# Altium footprint library MergenElektronik_Oscillators_Crystals.PcbLib: 3 footprints
Each footprint in its own frame and in the unit in brackets; x right, y up, seen from the top. Pads: shape width x height; smd on the part's side, far side on the other; paste and mask are expansions set on the pad; w line width, h text height; cw(c..) or ccw(c..) is an arc to the next point about the centre after c.
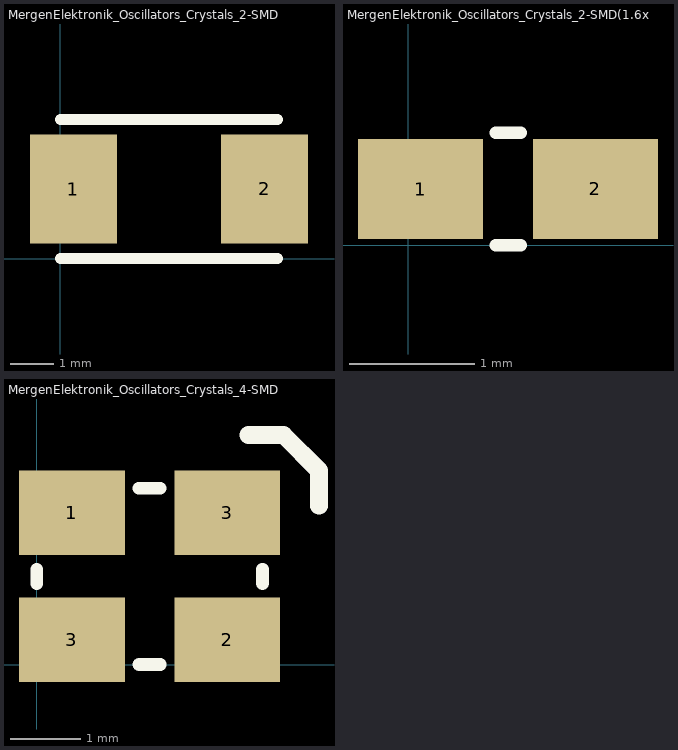
[diagram p0: the footprints below, top view; thin cyan lines are the x and y axes]

## MergenElektronik_Oscillators_Crystals_2-SMD [mm] "2-SMD"
pads (2):
  rect 2x2.5 smd: 1(0.3,1.6) 2(4.7,1.6)
Top Overlay:
  lines w0.254: 0,0 5,0 ; 0,3.2 5,3.2
3D body "445I23D12M00000_CTS.step": height 1.35, standoff 0, extent -0.002,0.1 5.002,3.3

## MergenElektronik_Oscillators_Crystals_2-SMD(1.6x0.8) [mm] "2-SMD(1.6x0.8)"
pads (2):
  rect 1x0.8 smd: 1(0.1,0.45) 2(1.5,0.45)
Top Overlay:
  lines w0.1: 0.7,0 0.9,0 ; 0.7,0.9 0.9,0.9
3D body "ECS-.327-5-16-TR.step": height 0.5, standoff 0, extent 0,-0.05 1.6,0.95

## MergenElektronik_Oscillators_Crystals_4-SMD [mm] "4-SMD"
pads (4):
  rect 1.5x1.2 smd: 1(0.5,2.15) 2(2.7,0.35) 3(0.5,0.35) 3(2.7,2.15)
Top Overlay:
  lines w0.18: 0,1.15 0,1.35 ; 1.45,0 1.75,0 ; 1.45,2.5 1.75,2.5 ; 3.199,1.15 3.199,1.35
  lines w0.254: 3,3.25 3.5,3.25 4,2.75 ; 4,2.25 4,2.75 ; 4,2.75 4,2.75
3D body "KYOCERA_SMD_Oscillator_KC3225K_002.step": height 1.07, standoff 0, extent 0.001,-0.075 3.199,2.575